# Altium footprint library CHXXX.pcblib: 121 footprints (part 2 of 8)
Each footprint in its own frame and in the unit in brackets; x right, y up, seen from the top. Pads: shape width x height; smd on the part's side, far side on the other; paste and mask are expansions set on the pad; w line width, h text height; cw(c..) or ccw(c..) is an arc to the next point about the centre after c.
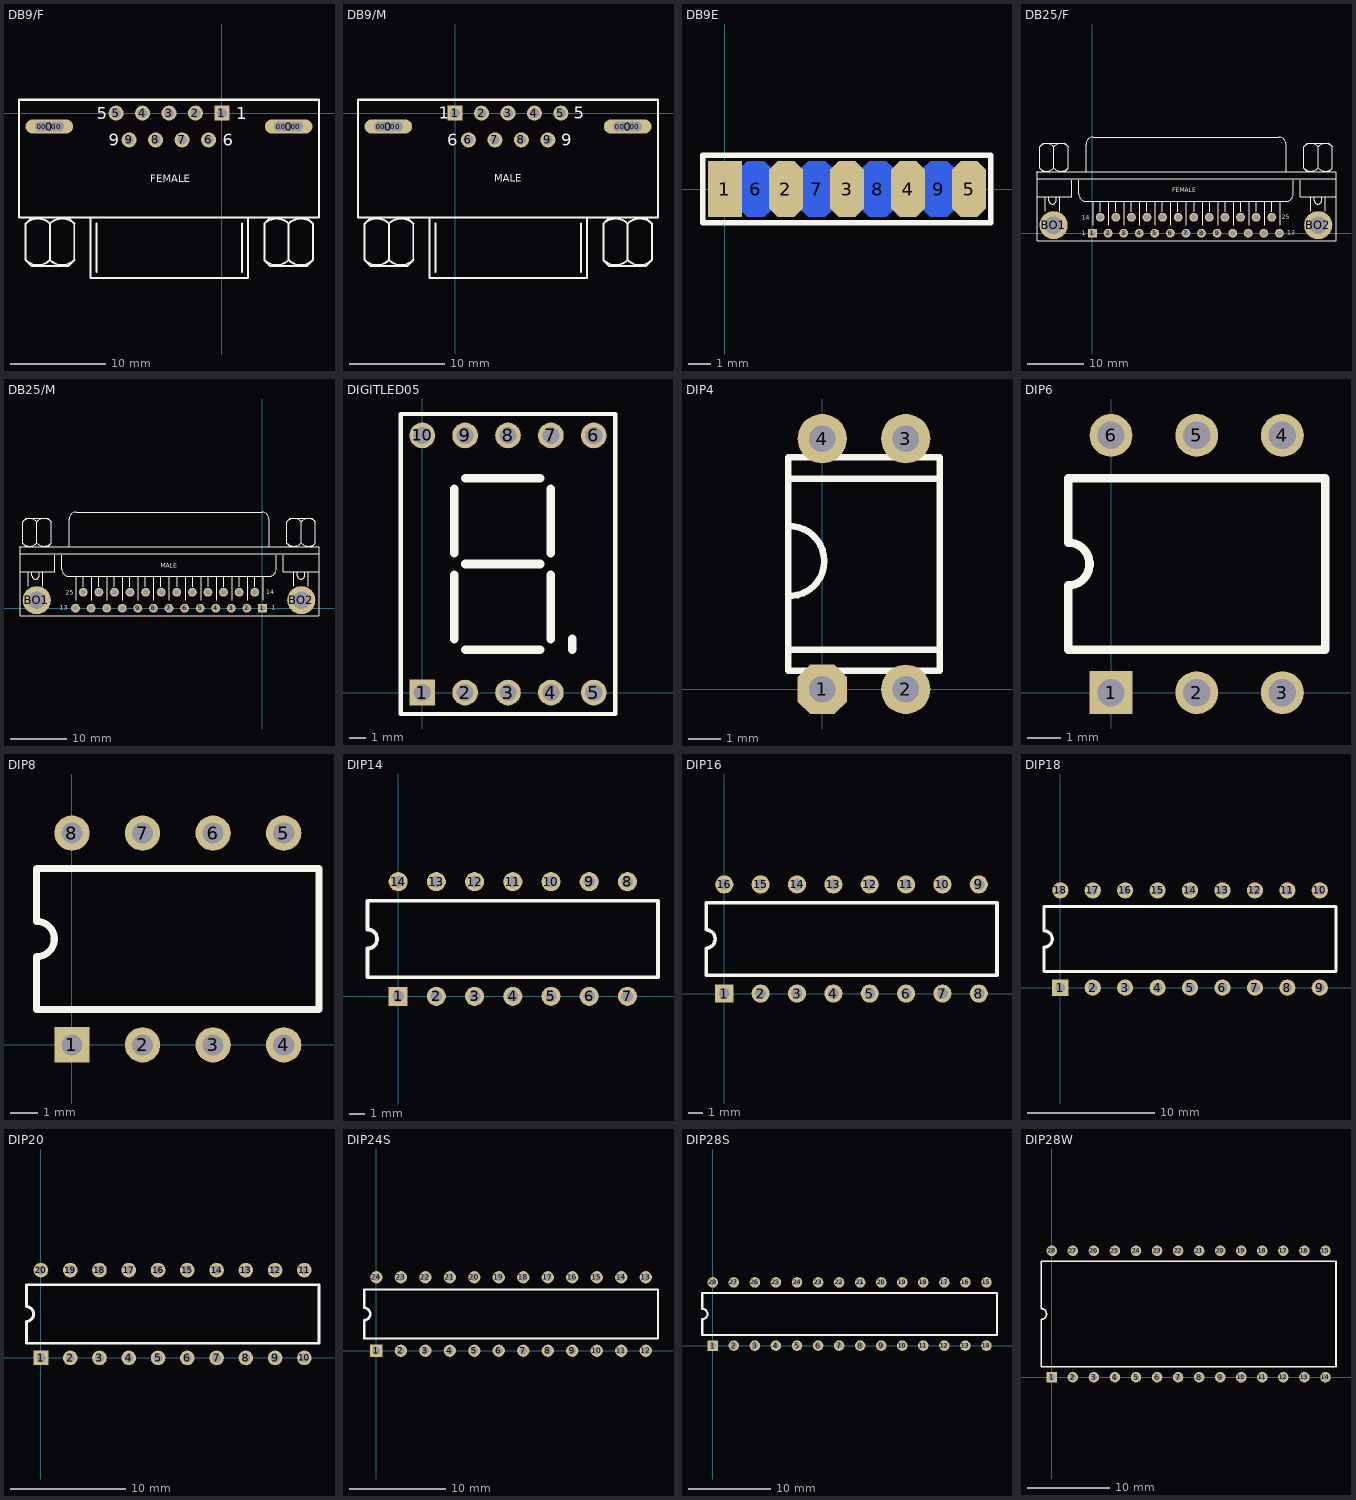
[diagram p1: the footprints below, top view; thin cyan lines are the x and y axes]

## DB9/F [mil]
pads (19):
  round 39.37 hole 39.37: 0(-751,-55) 0(-731,-55) 0(-691,-55) 0(-671,-55) 0(235,-55) 0(255,-55) 0(295,-55) 0(315,-55)
  oval 196.85x59.06 hole 39.37: 0(-711,-55)
  oval 196.85x59.05 hole 39.37: 0(275,-55)
  rect 62x62 hole 40: 1(0,0)
  round 62 hole 40: 2(-109,0) 3(-218,0) 4(-327,0) 5(-436,0) 6(-55,-110) 7(-164,-110) 8(-273,-110) 9(-382,-110)
TopOverlay:
  lines w8: -808.42,-605.09 ccw(c-758.33,-555) -708.25,-605.09 ; -808.42,-454.91 cw(c-758.33,-505) -708.25,-454.91 ; -783.33,-430 -808.33,-455 -808.33,-605 -783.33,-630 -633.33,-630 -608.33,-605 -608.33,-455 -633.33,-430 ; -708.42,-605.09 ccw(c-658.33,-555) -608.25,-605.09 ; -708.42,-454.91 cw(c-658.33,-505) -608.25,-454.91 ; -708.33,-605 -708.33,-455 ; -541.67,-430 -541.67,-680 108.33,-680 108.33,-430 ; -516.67,-655 -516.67,-455 ; 83.33,-655 83.33,-455 ; 174.91,-605.09 ccw(c225,-555) 275.09,-605.09 ; 174.91,-454.91 cw(c225,-505) 275.09,-454.91 ; 200,-430 175,-455 175,-605 200,-630 350,-630 375,-605 375,-455 350,-430 ; 274.91,-605.09 ccw(c325,-555) 375.09,-605.09 ; 274.91,-454.91 cw(c325,-505) 375.09,-454.91 ; 275,-605 275,-455
  lines w10: -836,-430 400,-430 400,55 -836,55 -836,-429.25
  text "6" at 4,-135 h50
  text "5" at -516,-25 h50
  text "1" at 59,-25 h50
  text "9" at -466,-135 h50
  text "FEMALE" at -296,-285 h30

## DB9/M [mil]
pads (19):
  round 39.37 hole 39.37: 0(-315,-55) 0(-295,-55) 0(-255,-55) 0(-235,-55) 0(671,-55) 0(691,-55) 0(731,-55) 0(751,-55)
  oval 196.85x59.06 hole 39.37: 0(-275,-55)
  oval 196.85x59.05 hole 39.37: 0(711,-55)
  rect 62x62 hole 40: 1(0,0)
  round 62 hole 40: 2(109,0) 3(218,0) 4(327,0) 5(436,0) 6(55,-110) 7(164,-110) 8(273,-110) 9(382,-110)
TopOverlay:
  lines w8: -372.42,-605.09 ccw(c-322.33,-555) -272.25,-605.09 ; -372.42,-454.91 cw(c-322.33,-505) -272.25,-454.91 ; -347.33,-430 -372.33,-455 -372.33,-605 -347.33,-630 -197.33,-630 -172.33,-605 -172.33,-455 -197.33,-430 ; -272.42,-605.09 ccw(c-222.33,-555) -172.25,-605.09 ; -272.42,-454.91 cw(c-222.33,-505) -172.25,-454.91 ; -272.33,-605 -272.33,-455 ; -105.67,-430 -105.67,-680 544.33,-680 544.33,-430 ; -80.67,-655 -80.67,-455 ; 519.33,-655 519.33,-455 ; 610.91,-605.09 ccw(c661,-555) 711.09,-605.09 ; 610.91,-454.91 cw(c661,-505) 711.09,-454.91 ; 636,-430 611,-455 611,-605 636,-630 786,-630 811,-605 811,-455 786,-430 ; 710.91,-605.09 ccw(c761,-555) 811.09,-605.09 ; 710.91,-454.91 cw(c761,-505) 811.09,-454.91 ; 711,-605 711,-455
  lines w10: -400,-430 836,-430 836,55 -400,55 -400,-429.25
  text "MALE" at 160.43,-282.97 h30
  text "6" at -31.5,-133.86 h50
  text "5" at 488.19,-23.62 h50
  text "1" at -66.93,-23.62 h50
  text "9" at 437.01,-133.86 h50

## DB9E [mil]
pads (9):
  rect 60x100 smd: 1(0,0)
  oct 60x100 smd: 2(109,0) 3(218,0) 4(327,0) 5(436,0)
  oct 60x100 smd far side: 6(55,0) 7(164,0) 8(273,0) 9(382,0)
TopOverlay:
  lines w10: -40,-60 -40,60 475,60 475,-60 -40,-60

## DB25/F [mm]
pads (27):
  rect 1.575x1.575 hole 1.016: 1(0,0)
  round 1.575 hole 1.016: 2(2.77,0) 3(5.54,0) 4(8.31,0) 5(11.08,0) 6(13.85,0) 7(16.62,0) 8(19.39,0) 9(22.16,0) 10(24.93,0) 11(27.7,0) 12(30.47,0) 13(33.24,0) 14(1.385,2.84) 15(4.155,2.84) 16(6.925,2.84) 17(9.695,2.84) 18(12.465,2.84) 19(15.235,2.84) 20(18.005,2.84) 21(20.775,2.84) 22(23.545,2.84) 23(26.315,2.84) 24(29.085,2.84) 25(31.855,2.84)
  round 4.995 hole 3.18: BO1(-6.9,1.42) BO2(40.14,1.42)
TopOverlay:
  lines w0.203: -10.043,10.936 43.297,10.936 43.297,-1.364 ; -9.838,6.436 -3.693,6.436 -3.693,9.455 ; -9.838,9.636 43.262,9.636 ; -9.838,10.936 -9.838,-1.364 43.262,-1.364 ; -9.41,11.569 ccw(c-8.138,12.841) -6.865,11.569 ; -9.41,15.384 cw(c-8.138,14.111) -6.865,15.384 ; -8.773,10.936 -9.408,11.571 -9.408,15.381 -8.773,16.016 -4.963,16.016 -4.328,15.381 -4.328,11.571 -4.963,10.936 ; -8.37,3.896 -8.37,6.436 ; -7.735,6.436 -7.735,5.801 ccw(c-7.1,5.801) -6.465,5.801 -6.465,6.436 ; -6.87,11.569 ccw(c-5.598,12.841) -4.325,11.569 ; -6.87,15.384 cw(c-5.598,14.111) -4.325,15.384 ; -6.868,11.571 -6.868,15.381 ; -5.83,3.896 -5.83,6.436 ; -2.423,9.455 -2.423,6.915 ccw(c-1.153,6.915) -1.153,5.645 34.407,5.645 ccw(c34.407,6.915) 35.677,6.915 35.677,9.455 ; -1.153,10.936 -1.153,15.805 cw(c0.117,15.805) 0.117,17.075 32.502,17.075 33.137,17.075 cw(c33.137,15.805) 34.407,15.805 34.407,10.936 ; 0.117,1.418 0.117,5.645 ; 1.387,3.836 1.387,5.645 ; 2.869,1.418 2.869,5.645 ; 4.139,3.836 4.139,5.645 ; 5.621,1.418 5.621,5.645 ; 6.891,3.836 6.891,5.645 ; 8.372,1.418 8.372,5.645 ; 9.642,3.836 9.642,5.645 ; 11.124,1.418 11.124,5.645 ; 12.394,3.836 12.394,5.645 ; 13.876,1.418 13.876,5.645 ; 15.146,3.836 15.146,5.645 ; 16.627,1.418 16.627,5.645 ; 18.109,3.836 18.109,5.645 ; 19.591,1.418 19.591,5.645 ; 20.861,3.836 20.861,5.645 ; 22.342,1.418 22.342,5.645 ; 23.612,3.836 23.612,5.645 ; 25.094,1.418 25.094,5.645 ; 26.364,3.836 26.364,5.645 ; 27.846,1.418 27.846,5.645 ; 29.116,3.836 29.116,5.645 ; 30.597,1.418 30.597,5.645 ; 31.867,3.836 31.867,5.645 ; 33.349,1.418 33.349,5.645 ; 36.947,9.455 36.947,6.436 43.297,6.436 ; 37.58,11.569 ccw(c38.852,12.841) 40.125,11.569 ; 37.58,15.384 cw(c38.852,14.111) 40.125,15.384 ; 38.217,10.936 37.582,11.571 37.582,15.381 38.217,16.016 42.027,16.016 42.662,15.381 42.662,11.571 42.027,10.936 ; 38.83,3.896 38.83,6.436 ; 39.465,6.436 39.465,5.801 ccw(c40.1,5.801) 40.735,5.801 40.735,6.436 ; 40.12,11.569 ccw(c41.392,12.841) 42.665,11.569 ; 40.12,15.384 cw(c41.392,14.111) 42.665,15.384 ; 40.122,11.571 40.122,15.381 ; 41.37,3.896 41.37,6.436
  text "FEMALE" at 14.19,7.256 h0.76
  text "14" at -1.87,2.382 h0.76
  text "1" at -1.865,-0.395 h0.76
  text "13" at 34.59,-0.283 h0.76
  text "25" at 33.665,2.445 h0.76

## DB25/M [mm]
pads (27):
  rect 1.575x1.575 hole 1.016: 1(0,0)
  round 1.575 hole 1.016: 2(-2.77,0) 3(-5.54,0) 4(-8.31,0) 5(-11.08,0) 6(-13.85,0) 7(-16.62,0) 8(-19.39,0) 9(-22.16,0) 10(-24.93,0) 11(-27.7,0) 12(-30.47,0) 13(-33.24,0) 14(-1.385,2.84) 15(-4.155,2.84) 16(-6.925,2.84) 17(-9.695,2.84) 18(-12.465,2.84) 19(-15.235,2.84) 20(-18.005,2.84) 21(-20.775,2.84) 22(-23.545,2.84) 23(-26.315,2.84) 24(-29.085,2.84) 25(-31.855,2.84)
  round 4.995 hole 3.18: BO1(-40.14,1.42) BO2(6.9,1.42)
TopOverlay:
  lines w0.203: -43.29,10.936 10.05,10.936 10.05,-1.364 ; -43.085,6.436 -36.94,6.436 -36.94,9.455 ; -43.085,9.636 10.015,9.636 ; -43.085,10.936 -43.085,-1.364 10.015,-1.364 ; -42.657,11.569 ccw(c-41.385,12.841) -40.113,11.569 ; -42.657,15.384 cw(c-41.385,14.111) -40.113,15.384 ; -42.02,10.936 -42.655,11.571 -42.655,15.381 -42.02,16.016 -38.21,16.016 -37.575,15.381 -37.575,11.571 -38.21,10.936 ; -41.618,3.896 -41.618,6.436 ; -40.983,6.436 -40.983,5.801 ccw(c-40.348,5.801) -39.713,5.801 -39.713,6.436 ; -40.117,11.569 ccw(c-38.845,12.841) -37.573,11.569 ; -40.117,15.384 cw(c-38.845,14.111) -37.573,15.384 ; -40.115,11.571 -40.115,15.381 ; -39.078,3.896 -39.078,6.436 ; -35.67,9.455 -35.67,6.915 ccw(c-34.4,6.915) -34.4,5.645 1.16,5.645 ccw(c1.16,6.915) 2.43,6.915 2.43,9.455 ; -34.4,10.936 -34.4,15.805 cw(c-33.13,15.805) -33.13,17.075 -0.745,17.075 -0.11,17.075 cw(c-0.11,15.805) 1.16,15.805 1.16,10.936 ; -33.13,1.418 -33.13,5.645 ; -31.86,3.836 -31.86,5.645 ; -30.378,1.418 -30.378,5.645 ; -29.108,3.836 -29.108,5.645 ; -27.627,1.418 -27.627,5.645 ; -26.357,3.836 -26.357,5.645 ; -24.875,1.418 -24.875,5.645 ; -23.605,3.836 -23.605,5.645 ; -22.123,1.418 -22.123,5.645 ; -20.853,3.836 -20.853,5.645 ; -19.372,1.418 -19.372,5.645 ; -18.102,3.836 -18.102,5.645 ; -16.62,1.418 -16.62,5.645 ; -15.138,3.836 -15.138,5.645 ; -13.657,1.418 -13.657,5.645 ; -12.387,3.836 -12.387,5.645 ; -10.905,1.418 -10.905,5.645 ; -9.635,3.836 -9.635,5.645 ; -8.153,1.418 -8.153,5.645 ; -6.883,3.836 -6.883,5.645 ; -5.402,1.418 -5.402,5.645 ; -4.132,3.836 -4.132,5.645 ; -2.65,1.418 -2.65,5.645 ; -1.38,3.836 -1.38,5.645 ; 0.102,1.418 0.102,5.645 ; 3.7,9.455 3.7,6.436 10.05,6.436 ; 4.333,11.569 ccw(c5.605,12.841) 6.877,11.569 ; 4.333,15.384 cw(c5.605,14.111) 6.877,15.384 ; 4.97,10.936 4.335,11.571 4.335,15.381 4.97,16.016 8.78,16.016 9.415,15.381 9.415,11.571 8.78,10.936 ; 5.582,3.896 5.582,6.436 ; 6.217,6.436 6.217,5.801 ccw(c6.852,5.801) 7.487,5.801 7.487,6.436 ; 6.873,11.569 ccw(c8.145,12.841) 9.417,11.569 ; 6.873,15.384 cw(c8.145,14.111) 9.417,15.384 ; 6.875,11.571 6.875,15.381 ; 8.122,3.896 8.122,6.436
  text "MALE" at -18.107,7.215 h0.76
  text "14" at 0.652,2.434 h0.76
  text "1" at 1.625,-0.317 h0.76
  text "13" at -36.002,-0.284 h0.76
  text "25" at -34.937,2.391 h0.76

## DIGITLED05 [mil]
pads (10):
  rect 60x60 hole 40: 1(0,0)
  round 60 hole 40: 2(100,0) 3(200,0) 4(300,0) 5(400,0) 6(400,600) 7(300,600) 8(200,600) 9(100,600) 10(0,600)
TopOverlay:
  lines w10: -50,-50 450,-50 450,650 -50,650 -50,-50
  lines w20: 75,125 75,275 ; 75,325 75,475 ; 100,100 275,100 ; 100,300 275,300 ; 100,500 275,500 ; 300,125 300,275 ; 300,325 300,475 ; 350,100 350,125

## DIP4 [mm]
pads (4):
  oct 1.5x1.5 hole 0.8: 1(0,0)
  round 1.5 hole 0.8: 2(2.54,0) 3(2.54,7.62) 4(0,7.62)
TopOverlay:
  lines w0.2: -1,1.2 3.5,1.2 ; -1,6.4 3.57,6.4 ; -1.03,0.56 3.57,0.56 3.57,7.06 -1.03,7.06 -1.03,0.56
  lines w0.203: -0.912,2.841 ccw(c-1,3.9) -0.904,4.959

## DIP6 [mil]
pads (6):
  rect 50x50 hole 32: 1(0,0)
  round 50 hole 32: 2(100,0) 3(200,0) 4(200,300) 5(100,300) 6(0,300)
TopOverlay:
  lines w10: -50,50 -50,125 ccw(c-50,150) -50,175 -50,250 250,250 250,50 -50,50

## DIP8 [mil]
pads (8):
  rect 50x50 hole 30: 1(0,0)
  round 50 hole 30: 2(100,0) 3(200,0) 4(300,0) 5(300,300) 6(200,300) 7(100,300) 8(0,300)
TopOverlay:
  lines w10: -50,50 350,50 350,250 -50,250 -50,175 cw(c-50,150) -50,125 -50,50

## DIP14 [mil]
pads (14):
  rect 50x50 hole 30: 1(0,0)
  round 50 hole 30: 2(100,0) 3(200,0) 4(300,0) 5(400,0) 6(500,0) 7(600,0) 8(600,300) 9(500,300) 10(400,300) 11(300,300) 12(200,300) 13(100,300) 14(0,300)
TopOverlay:
  lines w10: -80,50 680,50 680,250 -80,250 -80,175 cw(c-80,150) -80,125 -80,50

## DIP16 [mil]
pads (16):
  rect 50x50 hole 30: 1(0,0)
  round 50 hole 30: 2(100,0) 3(200,0) 4(300,0) 5(400,0) 6(500,0) 7(600,0) 8(700,0) 9(700,300) 10(600,300) 11(500,300) 12(400,300) 13(300,300) 14(200,300) 15(100,300) 16(0,300)
TopOverlay:
  lines w10: -50,50 -50,125 ccw(c-50,150) -50,175 -50,250 750,250 750,50 -50,50

## DIP18 [mil]
pads (18):
  rect 50x50 hole 30: 1(0,0)
  round 50 hole 30: 2(100,0) 3(200,0) 4(300,0) 5(400,0) 6(500,0) 7(600,0) 8(700,0) 9(800,0) 10(800,300) 11(700,300) 12(600,300) 13(500,300) 14(400,300) 15(300,300) 16(200,300) 17(100,300) 18(0,300)
TopOverlay:
  lines w10: -50,50 850,50 850,250 -50,250 -50,175 cw(c-50,150) -50,125 -50,50

## DIP20 [mil]
pads (20):
  rect 50x50 hole 30: 1(0,0)
  round 50 hole 30: 2(100,0) 3(200,0) 4(300,0) 5(400,0) 6(500,0) 7(600,0) 8(700,0) 9(800,0) 10(900,0) 11(900,300) 12(800,300) 13(700,300) 14(600,300) 15(500,300) 16(400,300) 17(300,300) 18(200,300) 19(100,300) 20(0,300)
TopOverlay:
  lines w10: -50,50 950,50 950,250 -50,250 -50,175 cw(c-50,150) -50,125 -50,50

## DIP24S [mil]
pads (24):
  rect 50x50 hole 30: 1(0,0)
  round 50 hole 30: 2(100,0) 3(200,0) 4(300,0) 5(400,0) 6(500,0) 7(600,0) 8(700,0) 9(800,0) 10(900,0) 11(1000,0) 12(1100,0) 13(1100,300) 14(1000,300) 15(900,300) 16(800,300) 17(700,300) 18(600,300) 19(500,300) 20(400,300) 21(300,300) 22(200,300) 23(100,300) 24(0,300)
TopOverlay:
  lines w10: -50,50 1150,50 1150,250 -50,250 -50,175 cw(c-50,150) -50,125 -50,50

## DIP28S [mil]
pads (28):
  rect 50x50 hole 30: 1(0,0)
  round 50 hole 30: 2(100,0) 3(200,0) 4(300,0) 5(400,0) 6(500,0) 7(600,0) 8(700,0) 9(800,0) 10(900,0) 11(1000,0) 12(1100,0) 13(1200,0) 14(1300,0) 15(1300,300) 16(1200,300) 17(1100,300) 18(1000,300) 19(900,300) 20(800,300) 21(700,300) 22(600,300) 23(500,300) 24(400,300) 25(300,300) 26(200,300) 27(100,300) 28(0,300)
TopOverlay:
  lines w10: -50,50 1350,50 1350,250 -50,250 -50,175 cw(c-50,150) -50,125 -50,50

## DIP28W [mil]
pads (28):
  rect 50x50 hole 30: 1(0,0)
  round 50 hole 30: 2(100,0) 3(200,0) 4(300,0) 5(400,0) 6(500,0) 7(600,0) 8(700,0) 9(800,0) 10(900,0) 11(1000,0) 12(1100,0) 13(1200,0) 14(1300,0) 15(1300,600) 16(1200,600) 17(1100,600) 18(1000,600) 19(900,600) 20(800,600) 21(700,600) 22(600,600) 23(500,600) 24(400,600) 25(300,600) 26(200,600) 27(100,600) 28(0,600)
TopOverlay:
  lines w8: -50,50 -50,275 ccw(c-50,300) -50,325 -50,550 1350,550 1350,50 -50,50